# EAGLE library part S1G7_JUMP (library #PaJa_konektory)
Radove konektory - koliky - 7x
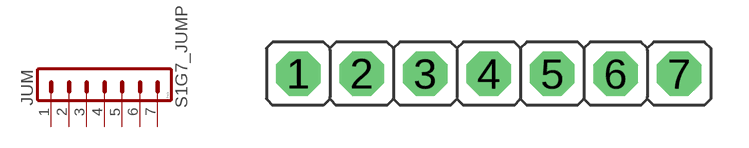
[diagram p20: symbol with the pads of S1G7_JUM; footprint S1G7_JUM]

Designator prefix JUM

## S1G7_JUMP  [S1G7_JUM]
1  1  pas
2  2  pas
3  3  pas
4  4  pas
5  5  pas
6  6  pas
7  7  pas

## Footprint S1G7_JUM (pad centres in mm)
drill 1.016 pad 1.778 octagon: 1 -7.62,0; 2 -5.08,0; 3 -2.54,0; 4 0,0; 5 2.54,0; 6 5.08,0; 7 7.62,0